# Altium schematic symbol library ResistorArray.SchLib: 1 symbol
Pins are listed as number, name and electrical type; pins without a type are passive.

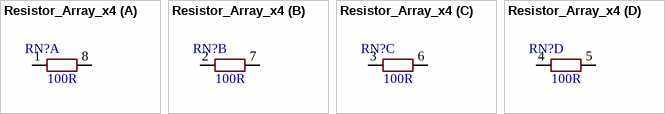
[diagram p0: symbol Resistor_Array_x4]

## Resistor_Array_x4
designator RN?  value 100R  (hidden comment: *)
Resistor Network; Manufacturer_Name: Panasonic; Manufacturer_Part_Number: EXB-N8V101JX; Datasheet Link: https://industrial.panasonic.com/cdbs/www-data/pdf/AOC0000/AOC0000C14.pdf; Height: 0.55mm; Mouser Part Number: 667-EXB-N8V101JX; Mouser Price/Stock: https://www.mouser.co.uk/ProductDetail/Panasonic/EXB-N8V101JX?qs=cttFivMKqWxyXyoXALoehw%3D%3D; Arrow Part Number: EXB-N8V101JX; Arrow Price/Stock: https://www.arrow.com/en/products/exbn8v101jx/panasonic?region=nac
footprint EXBN8V101JX
part A pins: 1, 8
part B pins: 2, 7
part C pins: 3, 6
part D pins: 4, 5